# EAGLE library part 5650712-1 (library con-amp-pressfit)
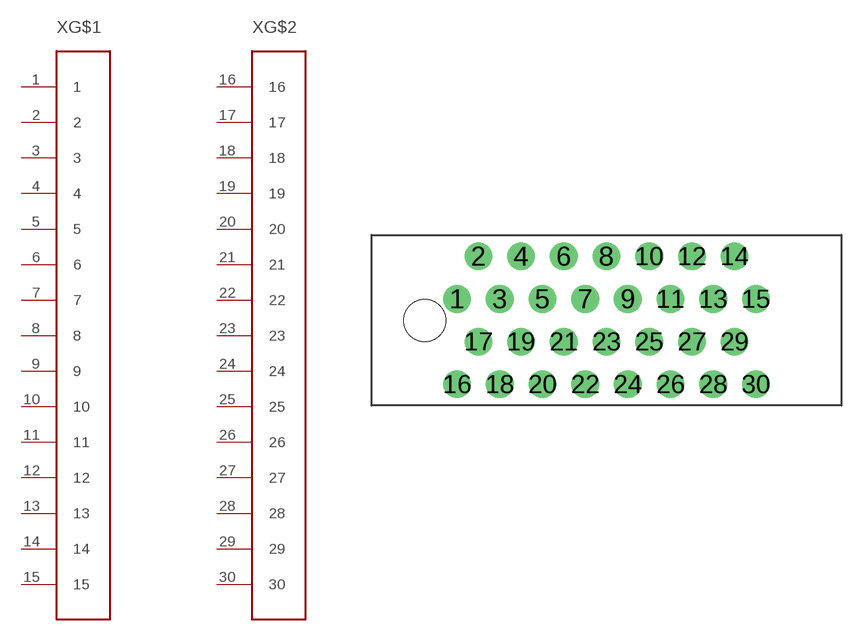
[diagram p0: symbol with the pads of 15DUAL; footprint 15DUAL]

Designator prefix X; gates G$1=30POS G$2=30POS_B

## 5650712-1  [15DUAL]
1  G$1:1
2  G$1:2
3  G$1:3
4  G$1:4
5  G$1:5
6  G$1:6
7  G$1:7
8  G$1:8
9  G$1:9
10  G$1:10
11  G$1:11
12  G$1:12
13  G$1:13
14  G$1:14
15  G$1:15
16  G$2:16
17  G$2:17
18  G$2:18
19  G$2:19
20  G$2:20
21  G$2:21
22  G$2:22
23  G$2:23
24  G$2:24
25  G$2:25
26  G$2:26
27  G$2:27
28  G$2:28
29  G$2:29
30  G$2:30

## Footprint 15DUAL (pad centres in mm)
drill 1.1: 1 0,1.27; 2 1.27,3.81; 3 2.54,1.27; 4 3.81,3.81; 5 5.08,1.27; 6 6.35,3.81; 7 7.62,1.27; 8 8.89,3.81; 9 10.16,1.27; 10 11.43,3.81; 11 12.7,1.27; 12 13.97,3.81; 13 15.24,1.27; 14 16.51,3.81; 15 17.78,1.27; 16 0,-3.81; 17 1.27,-1.27; 18 2.54,-3.81; 19 3.81,-1.27; 20 5.08,-3.81; 21 6.35,-1.27; 22 7.62,-3.81; 23 8.89,-1.27; 24 10.16,-3.81; 25 11.43,-1.27; 26 12.7,-3.81; 27 13.97,-1.27; 28 15.24,-3.81; 29 16.51,-1.27; 30 17.78,-3.81
hole 2.5 at -1.91,0